# Altium integrated library STMPS2141STR.IntLib: 1 symbol
Pins are listed as number, name and electrical type; pins without a type are passive.

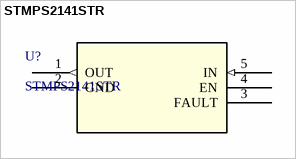
[diagram p0: symbol STMPS2141STR]

## STMPS2141STR
designator U?
Enhanced single channel power switches; Manufacturer_Name: STMicroelectronics; Copyright: Copyright (C) 2025 Ultra Librarian. All rights reserved.; Manufacturer_Part_Number: STMPS2141STR; RefDes: RefDes; Type: Type
footprint SOT23-5L_STM
pins: 1 OUT (out), 2 GND (power), 3 FAULT, 4 EN, 5 IN (in)